# EAGLE library part LM5117 (library my_ic)
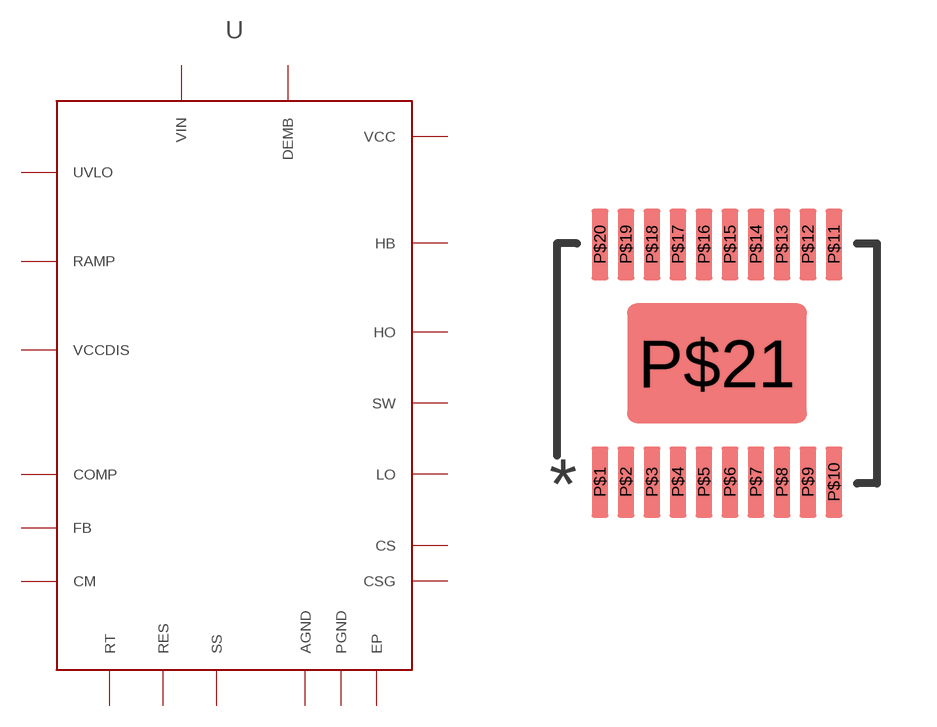
[diagram p18: symbol with the pads of HTSSOP20; footprint HTSSOP20]

Designator prefix -

## LM5117  [HTSSOP20]
P$1  UVLO
P$2  DEMB
P$3  RES
P$4  SS
P$5  RT
P$6  AGND
P$7  VCCDIS
P$8  FB
P$9  COMP
P$10  CM
P$11  RAMP
P$12  CS
P$13  CSG
P$14  PGND
P$15  LO
P$16  VCC
P$17  SW
P$18  HO
P$19  HB
P$20  VIN
P$21  EP

## Footprint HTSSOP20 (pad centres in mm)
smd 0.42 x 1.78: P$1 -2.925,-2.97; P$2 -2.275,-2.97; P$3 -1.625,-2.97; P$4 -0.975,-2.97; P$5 -0.325,-2.97; P$6 0.325,-2.97; P$7 0.975,-2.97; P$8 1.625,-2.97; P$9 2.275,-2.97; P$10 2.925,-2.97; P$11 2.925,2.97; P$12 2.275,2.97; P$13 1.625,2.97; P$14 0.975,2.97; P$15 0.325,2.97; P$16 -0.325,2.97; P$17 -0.975,2.97; P$18 -1.625,2.97; P$19 -2.275,2.97; P$20 -2.925,2.97
smd 4.5 x 3: P$21 0,0